# Altium footprint library J1_NORCOMP_381_025_112L565.PcbLib: 1 footprints
Each footprint in its own frame and in the unit in brackets; x right, y up, seen from the top. Pads: shape width x height; smd on the part's side, far side on the other; paste and mask are expansions set on the pad; w line width, h text height; cw(c..) or ccw(c..) is an arc to the next point about the centre after c.
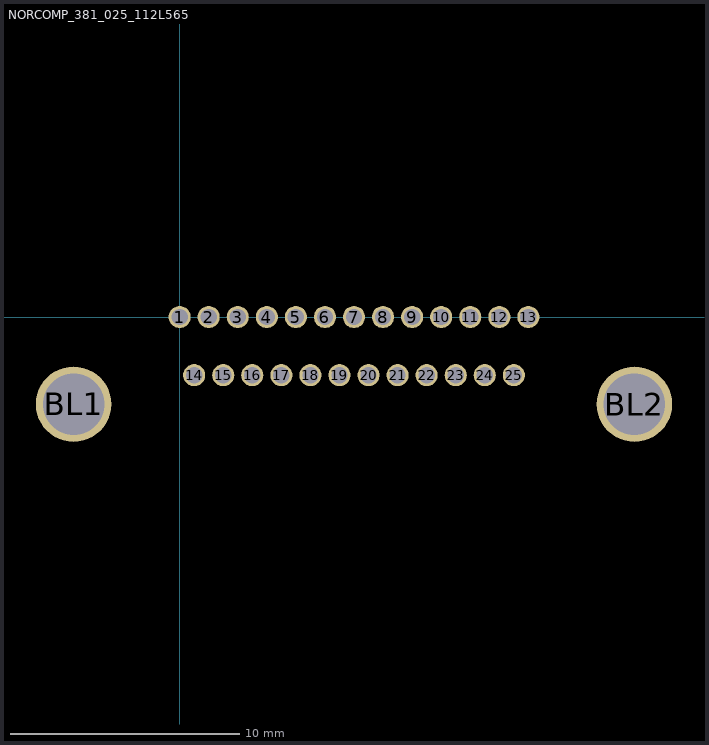
[diagram p0: the footprint, top view; thin cyan lines are the x and y axes]

## NORCOMP_381_025_112L565 [mil] "Saved adapter geometry; component-specific orientation"
pads (27):
  round 38 hole 28 paste-99999 mask+1.97: 1(0,0) 2(50,0) 3(100,0) 4(150,0) 5(200,0) 6(250,0) 7(300,0) 8(350,0) 9(400,0) 10(450,0) 11(500,0) 12(550,0) 13(600,0) 14(25,-100) 15(75,-100) 16(125,-100) 17(175,-100) 18(225,-100) 19(275,-100) 20(325,-100) 21(375,-100) 22(425,-100) 23(475,-100) 24(525,-100) 25(575,-100)
  round 129.92 hole 105.91 paste-99999 mask+1.97: BL1(-182.48,-150) BL2(782.48,-150)